# Altium schematic symbol library power_board_evm.SCHLIB: 67 symbols (part 2 of 2)
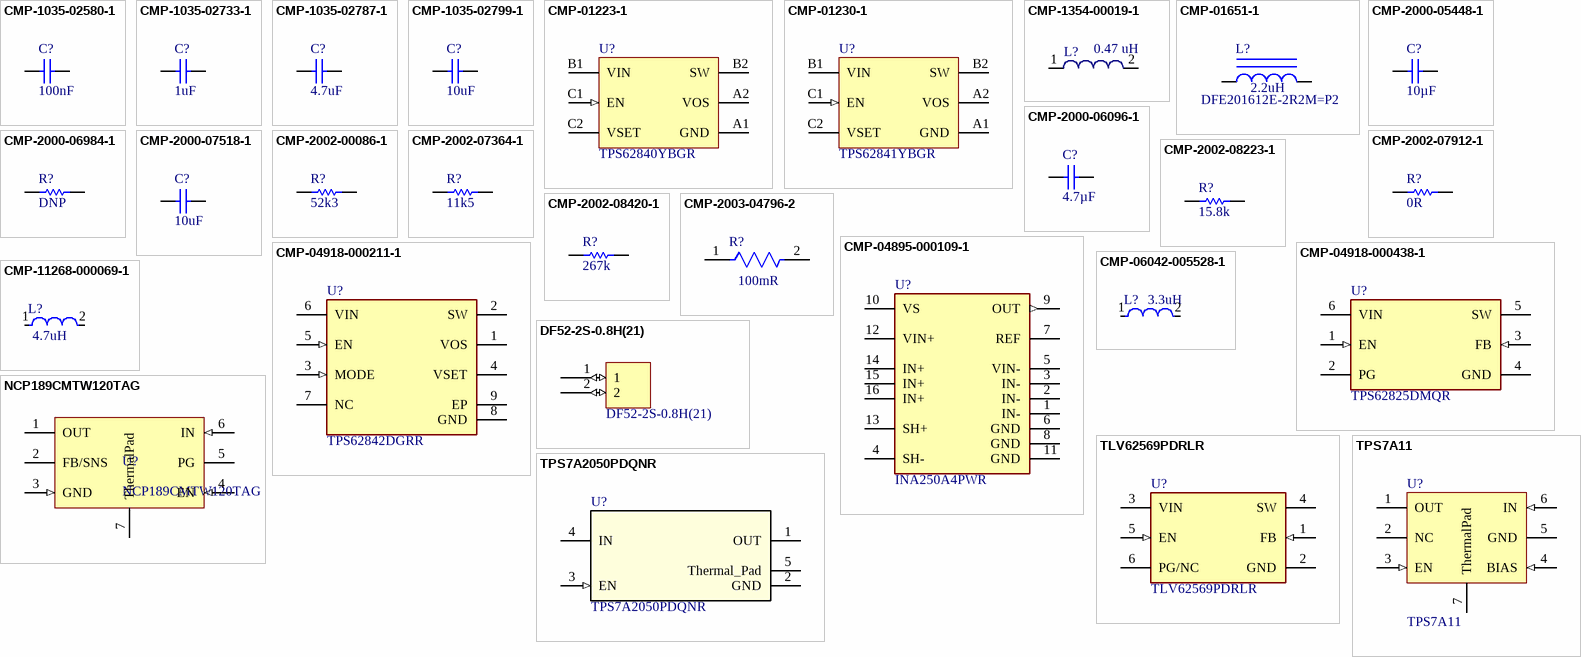
[diagram p2: symbols CMP-1035-02580-1 to TPS7A2050PDQNR]

## CMP-2000-07518-1
designator C?, comment Capacitance: 10uF  (hidden comment: GRM188R60J106KE47D)
Chip Capacitor, 10 uF, +/- 10%, 6.3 V, -55 to 85 degC, 0603 (1608 Metric), RoHS, Tape and Reel; Manufacturer: Murata; Voltage Rating: 6.3V; Dielectric: X5R; Material: Ceramic; Datasheet Version: 03/2016; Depth: 0.8mm; Height: 0.8mm; Termination: SMD/SMT; Thickness: 0.035inch; Voltage Rating (DC): 6.3V; Package Reference: 603; Package Quantity: 4000; Weight: 0.000222oz; Manufacturer URL: http://www.murata.com/; Datasheet URL: http://search.murata.co.jp/Ceramy/image/img/A01X/G101/ENG/GRM188R60J106KE47-02.pdf; Width: 0.031inch; Min Operating Temperature: -55degC; Mounting Technology: SurfaceMount; REACH SVHC: NoSVHC; Length: 1.6mm; Case Code (Imperial): 0603; Case/Package: 0603; Case Code (Metric): 1608; RoHSCompliant: True; Tolerance: 10%; Package Description: 2-Pin Surface Mount Device, Body 1.6 x 0.8 mm; Mount: SurfaceMount; Max Operating Temperature: 85degC; Packaging: TapeandReel; Manufacturer Part Number: GRM188R60J106KE47D
footprint CAPC1608X90X38LL10T18 (Chip Capacitor, 2-Leads, Body 1.7x0.9mm, IPC High Density)
footprint CAPC1608X90X38ML10T18 (Chip Capacitor, 2-Leads, Body 1.7x0.9mm, IPC Low Density)
footprint CAPC1608X90X38NL10T18 (Chip Capacitor, 2-Leads, Body 1.7x0.9mm, IPC Medium Density)
pins: 1, 2

## CMP-2002-00086-1
designator R?, comment 52k3
Part Number: CRCW040252K3FKED; Manufacturer: Vishay Dale; Manufacturer: Vishay; Manufacturer Part Number: CRCW040252K3FKED
footprint RESC1005X40X25LL05T05 (Chip Resistor, 2-Leads, Body 1.00x0.50mm, IPC High Density)
footprint RESC1005X40X25NL05T05 (Chip Resistor, 2-Leads, Body 1.00x0.50mm, IPC Medium Density)
footprint RESC1005X40X25ML05T05 (Chip Resistor, 2-Leads, Body 1.00x0.50mm, IPC Low Density)
pins: 1, 2
1 alternate drawing of the same symbol

## CMP-2002-07364-1
designator R?, comment 11k5
Manufacturer: Yageo / Phycomp; Part Number: RC0402FR-0711K5L; Manufacturer: Yageo; Manufacturer Part Number: RC0402FR-0711K5L
footprint RESC1005X40X25ML05T10 (Chip Resistor, 2-Leads, Body 1.00x0.50mm, IPC Low Density)
footprint RESC1005X40X25LL05T10 (Chip Resistor, 2-Leads, Body 1.00x0.50mm, IPC High Density)
footprint RESC1005X40X25NL05T10 (Chip Resistor, 2-Leads, Body 1.00x0.50mm, IPC Medium Density)
pins: 1, 2
1 alternate drawing of the same symbol

## CMP-2002-07912-1
designator R?, comment 0R
Manufacturer: Yageo / Phycomp; Part Number: RC0402JR-070RL; Supplier 1: Digi-Key; Supplier Part Number 1: 311-0.0JRCT-ND
footprint RESC1005X40X25NL05T10 (Chip Resistor, 2-Leads, Body 1.00x0.50mm, IPC Medium Density)
footprint RESC1005X40X25ML05T10 (Chip Resistor, 2-Leads, Body 1.00x0.50mm, IPC Low Density)
footprint RESC1005X40X25LL05T10 (Chip Resistor, 2-Leads, Body 1.00x0.50mm, IPC High Density)
pins: 1, 2
1 alternate drawing of the same symbol

## CMP-2002-08223-1
designator R?, comment 15.8k
Part Number: CRCW040215K8FKED; Manufacturer: Vishay Dale; Manufacturer: Vishay; Supplier 1: Digi-Key; Supplier Part Number 1: 541-15.8KLCT-ND; Manufacturer Part Number: CRCW040215K8FKED
footprint RESC1005X40X25NL05T05 (Chip Resistor, 2-Leads, Body 1.00x0.50mm, IPC Medium Density)
footprint RESC1005X40X25ML05T05 (Chip Resistor, 2-Leads, Body 1.00x0.50mm, IPC Low Density)
footprint RESC1005X40X25LL05T05 (Chip Resistor, 2-Leads, Body 1.00x0.50mm, IPC High Density)
pins: 1, 2
1 alternate drawing of the same symbol

## CMP-2002-08420-1
designator R?, comment 267k
Manufacturer: Vishay Dale; Part Number: CRCW0402267KFKED; Manufacturer: Vishay; Manufacturer Part Number: CRCW0402267KFKED
footprint RESC1005X40X25NL05T05 (Chip Resistor, 2-Leads, Body 1.00x0.50mm, IPC Medium Density)
footprint RESC1005X40X25LL05T05 (Chip Resistor, 2-Leads, Body 1.00x0.50mm, IPC High Density)
footprint RESC1005X40X25ML05T05 (Chip Resistor, 2-Leads, Body 1.00x0.50mm, IPC Low Density)
pins: 1, 2
1 alternate drawing of the same symbol

## CMP-2003-04796-2
designator R?, comment Resistance: 100mR  (hidden comment: PRL1632-R100-F-T5)
100 mOhms ±1% 1W Chip Resistor Wide 0612 (1632 Metric), Current Sense Thin Film; Manufacturer: Susumu; Temperature Coefficient: 50ppm/°C; Resistance Tolerance: 1%; Lead Free: Lead Free; Case Code (Metric): 3216; RoHS Compliant: Yes; Resistor Type: Thin Film; Packaging: Cut Tape; Tolerance: 1%; Size Code: 1632; Power Rating: 1W; Case Code (Imperial): 1206; Manufacturer Part Number: PRL1632-R100-F-T5
footprint FP-PRL1632-MFG
footprint FP-PRL1632-IPC_C
footprint FP-PRL1632-IPC_A
footprint FP-PRL1632-IPC_B
pins: 1, 2

## CMP-04895-000109-1
designator U?, comment INA250A4PWR
IC CURR SENSE 1 CIRCUIT 16TSSOP; Manufacturer: Texas Instruments; Common Mode Rejection Ratio: 108dB; Operating Supply Current: 200uA; Bandwidth: 11kHz; Gain Bandwidth Product: 50kHz; Slew Rate: 0.2V/µs; Number of Circuits: 1; Min Supply Voltage: 2.7V; Input Bias Current: 28uA; Max Supply Voltage: 36V; Min Operating Temperature: -40°C; Max Operating Temperature: 125°C; Contact Plating: Gold; Lead Free: Lead Free; Packaging: Tape and Reel; Number of Pins: 16; Mount: Surface Mount; RoHS Compliant: Yes; Case/Package: TSSOP; Manufacturer Part Number: INA250A4PWR
footprint FP-PW0016A-IPC_B
footprint FP-PW0016A-IPC_A
footprint FP-PW0016A-MFG
footprint FP-PW0016A-IPC_C
pins: 1 IN- (hiz), 2 IN- (hiz), 3 IN- (hiz), 4 SH-, 5 VIN- (oe), 6 GND (power), 7 REF, 8 GND (power), 9 OUT (out), 10 VS (power), 11 GND (power), 12 VIN+ (power), 13 SH+, 14 IN+ (hiz), 15 IN+ (hiz), 16 IN+ (hiz)

## CMP-04918-000211-1
designator U?, comment TPS62842DGRR
STEP DOWN CONVERTER; Manufacturer: Texas Instruments; RoHS Compliant: Yes; Manufacturer Part Number: TPS62842DGRR
footprint FP-DGR0008A-MFG
footprint FP-DGR0008A-IPC_C
footprint FP-DGR0008A-IPC_B
footprint FP-DGR0008A-IPC_A
pins: 1 VOS (power), 2 SW, 3 MODE (in), 4 VSET, 5 EN (in), 6 VIN (power), 7 NC, 8 GND (power), 9 EP

## CMP-04918-000438-1
designator U?, comment TPS62825DMQR
IC REG BUCK ADJUSTABLE 2A 6VSON; Manufacturer: Texas Instruments; Max Input Voltage: 5.5V; Number of Outputs: 1; Min Output Voltage: 600mV; Switching Frequency: 2.2MHz; Synchronous Rectifier: Yes; Max Output Voltage: 4V; Min Input Voltage: 2.4V; Output Configuration: Positive; Max Operating Temperature: 125°C; Output Type: Adjustable; Output Current: 2A; Mount: Surface Mount; Min Operating Temperature: -40°C; Number of Pins: 6; RoHS Compliant: Yes; Packaging: Tape and Reel; Manufacturer Part Number: TPS62825DMQR
footprint FP-DMQ0006A-MFG
pins: 1 EN (in), 2 PG (oc), 3 FB (in), 4 GND (power), 5 SW (power), 6 VIN (power)

## CMP-06042-005528-1
designator L?, comment 3.3uH
Wire Wound Ferrite type RF Inductor 3300nH ±20% 130mA 3.65Ω 0402 (1005), LQW15CN3R3M10D; Manufacturer: Murata; DC Resistance (DCR): 3.65R; Test Frequency: 100MHz; Shielding: Unshielded; Self Resonant Frequency: 80MHz; Min Operating Temperature: -55°C; Current Rating: 130mA; Mount: Surface Mount; Core Material: Ferrite; Packaging: Cut Tape; Case Code (Imperial): 0402; Max Operating Temperature: 125°C; Case Code (Metric): 1106; Inductance: 3.3uH; Tolerance: 20%; Case/Package: Nonstandard; Resistor Type: Wirewound; Manufacturer Part Number: LQW15CN3R3M10D
footprint FP-LQW15CN_10-MFG
pins: 1, 2

## CMP-11268-000069-1
designator L?, comment Inductance: 4.7uH  (hidden comment: EPL3015-472MLB)
Power inductor, shielded, 20% tol, SMT, RoHS; Manufacturer: Coilcraft; Max DC Current: 1.4A; Core Material: Ferrite; Self Resonant Frequency: 50MHz; Saturation Current: 550mA; DC Resistance (DCR): 167mR; Test Frequency: 100kHz; Min Operating Temperature: -40°C; Length: 3.2mm; RMS Current (Irms): 1.4A; Series: EPL3015; Packaging: Tape and Reel; Shielding: Shielded; Mount: Surface Mount; Lead Free: Contains Lead; Height: 1.55mm; Inductance Tolerance: 20%; Case/Package: SMD/SMT; Width: 3.2mm; REACH SVHC: No SVHC; Package Quantity: 75; Tolerance: 20%; RoHS Compliant: Yes; Termination: SMD/SMT; Max Operating Temperature: 85°C; Manufacturer Part Number: EPL3015-472MLB
footprint FP-EPL3015-MFG
pins: 1, 2

## DF52-2S-0.8H(21)
designator CONN_BAT?
footprint DF52-2S-0.8H(21)
pins: 1 (io), 2 (io)

## NCP189CMTW120TAG
designator U?
LDO Regulator, 0.5 A, High / Accuracy (0.7%), Adjustable, / Low Noise, High PSRR with / Power Good
footprint NCP189
pins: 1 OUT (power) "Regulated output pin. A capacitor is required from OUT to ground for stability. For best transientresponse, use the nominal recommended value or larger ceramic capacitor from OUT to ground.Follow the recommended capacitor value as listed in the Recommended Operating Conditionstable. Place the output capacitor as close to the output pin of the device as possible.", 2 FB/SNS "This pin is not internally connected. Connect to ground for better thermal dissipation or leavefloating", 3 GND (in) "Enable pin. Driving this pin to logic high enables the device. Driving this pin to logic low disablesthe device. If enable functionality is not required, this pin must be connected to IN or BIAS;however, connecting EN to IN is only acceptable if the IN pin voltage is greater than 0.9 V.", 4 EN (in) "BIAS pin. This pin enables the use of low-input voltage, low-output voltage (LILO) conditions. Forbest performance, use the nominal recommended value or larger ceramic capacitor from BIAS toground. Follow the recommended capacitor value as listed in the Recommended OperatingConditions table. Place the bias capacitor as close to the bias pin of the device as possible.", 5 PG (power) "Ground pin. This pin must be connected to ground", 6 IN (in) "nput pin. A capacitor is required from IN to ground for stability. For best transient response, usethe nominal recommended value or larger ceramic capacitor from IN to ground. Follow therecommended capacitor value as listed in the Recommended Operating Conditions table. Placethe input capacitor as close to the input pin of the device as possible", 7 ThermalPad (power) "Connect the thermal pad to a large-area ground plane"

## TLV62569PDRLR
designator U?
footprint SOT50P160X60-6N (TLV62569PDRLR)
pins: 1 FB (in), 2 GND (power), 3 VIN (power), 4 SW, 5 EN (in), 6 PG/NC

## TPS7A11
designator U?
footprint TPS7A11
pins: 1 OUT (power) "Regulated output pin. A capacitor is required from OUT to ground for stability. For best transientresponse, use the nominal recommended value or larger ceramic capacitor from OUT to ground.Follow the recommended capacitor value as listed in the Recommended Operating Conditionstable. Place the output capacitor as close to the output pin of the device as possible.", 2 NC "This pin is not internally connected. Connect to ground for better thermal dissipation or leavefloating", 3 EN (in) "Enable pin. Driving this pin to logic high enables the device. Driving this pin to logic low disablesthe device. If enable functionality is not required, this pin must be connected to IN or BIAS;however, connecting EN to IN is only acceptable if the IN pin voltage is greater than 0.9 V.", 4 BIAS (in) "BIAS pin. This pin enables the use of low-input voltage, low-output voltage (LILO) conditions. Forbest performance, use the nominal recommended value or larger ceramic capacitor from BIAS toground. Follow the recommended capacitor value as listed in the Recommended OperatingConditions table. Place the bias capacitor as close to the bias pin of the device as possible.", 5 GND (power) "Ground pin. This pin must be connected to ground", 6 IN (in) "nput pin. A capacitor is required from IN to ground for stability. For best transient response, usethe nominal recommended value or larger ceramic capacitor from IN to ground. Follow therecommended capacitor value as listed in the Recommended Operating Conditions table. Placethe input capacitor as close to the input pin of the device as possible", 7 ThermalPad (power) "Connect the thermal pad to a large-area ground plane"

## TPS7A2050PDQNR
designator U?
Manufacturer: Texas Instruments; PartNumber: TPS7A2028PDQNR; RefDes: RefDes; Type: DEV; Value: Value; Copyright: Copyright (C) 2021 Accelerated Designs. All rights reserved
footprint DQN0004A-MFG (TPS7A20185PDQNR)
pins: 1 OUT, 2 GND (power), 3 EN (in), 4 IN (power), 5 Thermal_Pad